# EAGLE library part LM339 (library act-global-nolan)
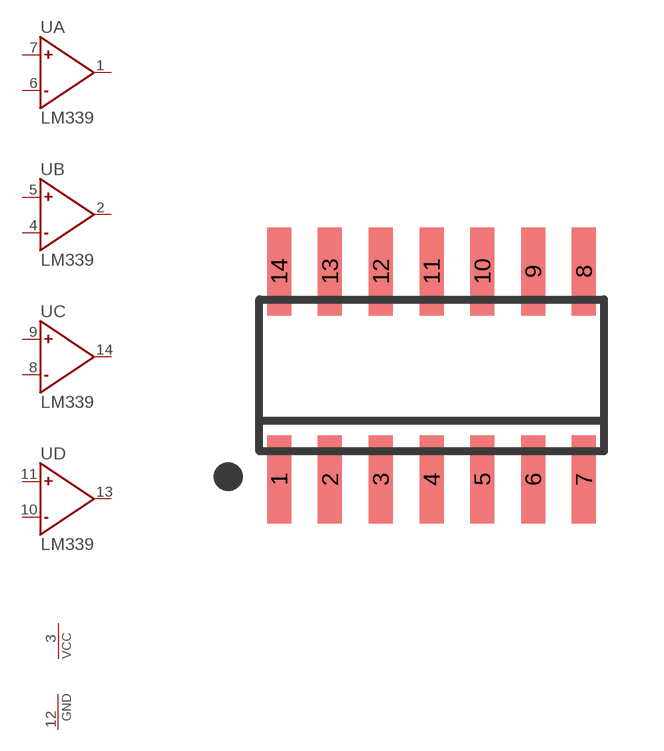
[diagram p23: symbol with the pads of SO14; footprint SO14]

Designator prefix U; gates A=OPAMP B=OPAMP C=OPAMP D=OPAMP G$1=PWRN

## LM339  [SO14]
1  A:OUT
2  B:OUT
3  G$1:VCC  pwr
4  B:-
5  B:+
6  A:-
7  A:+
8  C:-
9  C:+
10  D:-
11  D:+
12  G$1:GND  pwr
13  D:OUT
14  C:OUT

## Footprint SO14 (pad centres in mm)
SMALL OUTLINE INTEGRATED CIRCUIT body 3.9 mm/JEDEC MS-012AC
smd 0.6 x 2.2: 1 -3.81,-2.6; 2 -2.54,-2.6; 3 -1.27,-2.6; 4 0,-2.6; 5 1.27,-2.6; 6 2.54,-2.6; 7 3.81,-2.6; 8 3.81,2.6; 9 2.54,2.6; 10 1.27,2.6; 11 0,2.6; 12 -1.27,2.6; 13 -2.54,2.6; 14 -3.81,2.6